# Altium integrated library Maxim Digital Potentiometers.IntLib: 1045 symbols (part 34 of 42)
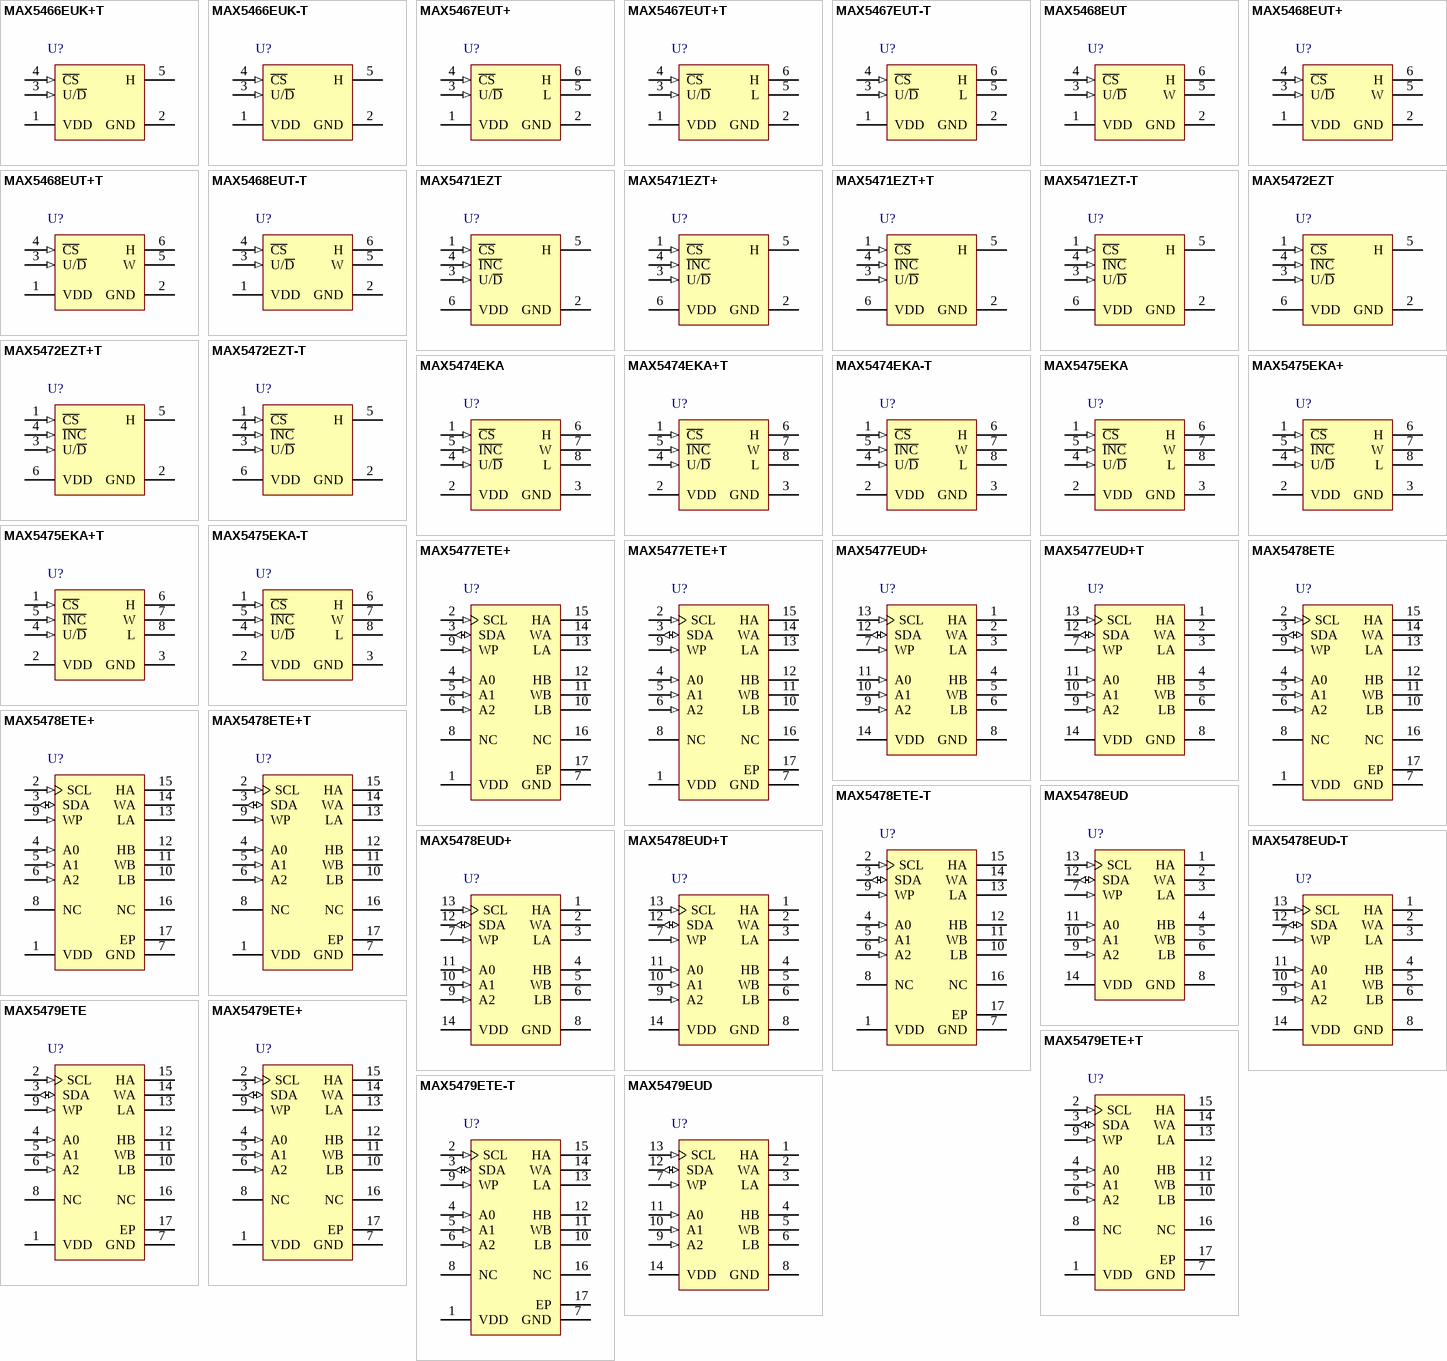
[diagram p62: symbols MAX5466EUK+T to MAX5479EUD]

## MAX5479EUD
designator U?
Dual, I2C, 100k Digital Potentiometer with 2-Wire Serial Control Interface, Non-Volatile, Linear Taper, 256 Steps, -40 to 85 degC, 14-pin TSSOP (U14-1); PartNumber: MAX5479EUD; DatasheetVersion: Rev. 5; PackageVersion: Rev. L, 07/2010; PackageReference: U14-1; PackageDescription: 14-Pin Thin Shrink Small-Outline Package (U14-1), Body 5 x 4.4 mm, Pitch 0.65 mm; Supplier 1: Mouser; Supplier Part Number 1: N/A; Control Interface: 2-Wire Serial; Features: EEPROM Wiper Memory; Mounting Technology: Surface Mount; Code_JEDEC: MO-153; ComponentLink1Description: Manufacturer URL; ComponentLink1URL: http://www.maximintegrated.com/; ComponentLink2Description: Datasheet; ComponentLink2URL: http://datasheets.maximintegrated.com/en/ds/MAX5477-MAX5479.pdf; ComponentLink3Description: Package Specification; ComponentLink3URL: http://pdfserv.maximintegrated.com/package_dwgs/21-0066.PDF
footprint MAXM-U14-1_N (SOP, 14-Leads, Body 5x4.4mm, Pitch 0.65mm, IPC Medium Density)
footprint MAXM-U14-1_L (SOP, 14-Leads, Body 5x4.4mm, Pitch 0.65mm, IPC High Density)
footprint MAXM-U14-1_M (SOP, 14-Leads, Body 5x4.4mm, Pitch 0.65mm, IPC Low Density)
pins: 1 HA "Potentiometer A High Terminal", 2 WA "Potentiometer A Wiper Terminal", 3 LA "Potentiometer A Low Terminal", 4 HB "Potentiometer B High Terminal", 5 WB "Potentiometer B Wiper Terminal", 6 LB "Potentiometer B Low Terminal", 7 WP (in) "Write-Protect Input. Connect to GND to allow changes to the wiper position and the data stored in the EEPROM. Connect to VDD or leave unconnected to enable the write protection of the EEPROM. See the Write Protect (WP) (See Datasheet)", 8 GND (power) "Ground", 9 A2 (in) "Address Input 2. Connect to VDD or GND", 10 A1 (in) "Address Input 1. Connect to VDD or GND", 11 A0 (in) "Address Input 0. Connect to VDD or GND", 12 SDA (io) "I2C Serial Data", 13 SCL (in) "I2C Clock Input", 14 VDD (power) "Power-Supply Input. Connect a +2.7V to +5.25V power supply to VDD and bypass VDD to GND with a 0.1uF capacitor installed as close to the device as possible"

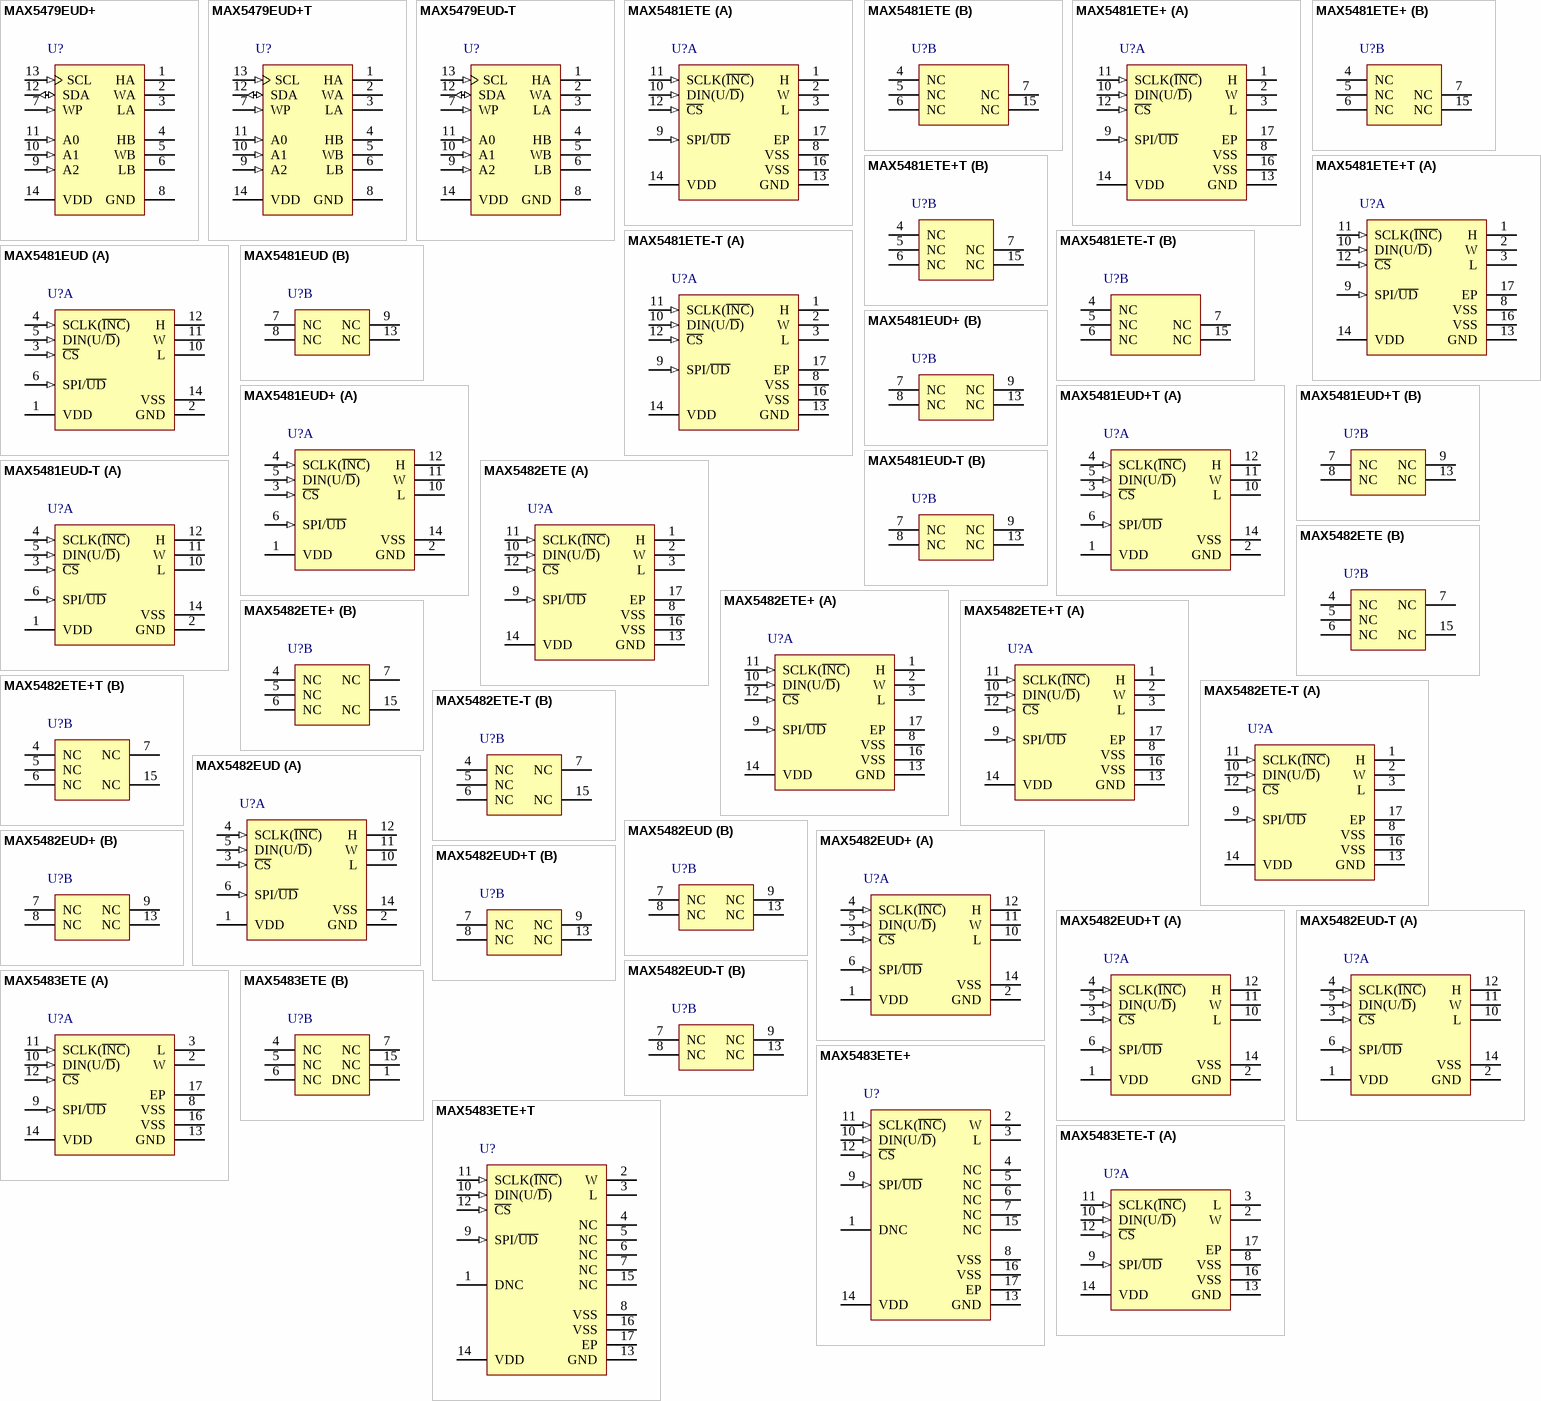
[diagram p23: symbols MAX5479EUD+ to MAX5483ETE-T]

## MAX5479EUD+
designator U?
Dual, I2C, 100k Digital Potentiometer with 2-Wire Serial Control Interface, Non-Volatile, Linear Taper, 256 Steps, -40 to 85 degC, 14-pin TSSOP (U14+1), Pb-Free,; PartNumber: MAX5479EUD+; DatasheetVersion: Rev. 5; PackageVersion: Rev. L, 07/2010; PackageReference: U14+1; PackageDescription: 14-Pin Thin Shrink Small-Outline Package (U14+1), Body 5 x 4.4 mm, Pitch 0.65 mm; Supplier 1: Digi-Key; Supplier Part Number 1: MAX5479EUD+-ND; Supplier 2: Mouser; Supplier Part Number 2: 700-MAX5479EUD; Control Interface: 2-Wire Serial; Features: EEPROM Wiper Memory; Mounting Technology: Surface Mount; Code_JEDEC: MO-153; ComponentLink1Description: Manufacturer URL; ComponentLink1URL: http://www.maximintegrated.com/; ComponentLink2Description: Datasheet; ComponentLink2URL: http://datasheets.maximintegrated.com/en/ds/MAX5477-MAX5479.pdf; ComponentLink3Description: Package Specification; ComponentLink3URL: http://pdfserv.maximintegrated.com/package_dwgs/21-0066.PDF
footprint MAXM-U14+1_N (SOP, 14-Leads, Body 5x4.4mm, Pitch 0.65mm, IPC Medium Density)
footprint MAXM-U14+1_L (SOP, 14-Leads, Body 5x4.4mm, Pitch 0.65mm, IPC High Density)
footprint MAXM-U14+1_M (SOP, 14-Leads, Body 5x4.4mm, Pitch 0.65mm, IPC Low Density)
pins: 1 HA "Potentiometer A High Terminal", 2 WA "Potentiometer A Wiper Terminal", 3 LA "Potentiometer A Low Terminal", 4 HB "Potentiometer B High Terminal", 5 WB "Potentiometer B Wiper Terminal", 6 LB "Potentiometer B Low Terminal", 7 WP (in) "Write-Protect Input. Connect to GND to allow changes to the wiper position and the data stored in the EEPROM. Connect to VDD or leave unconnected to enable the write protection of the EEPROM. See the Write Protect (WP) (See Datasheet)", 8 GND (power) "Ground", 9 A2 (in) "Address Input 2. Connect to VDD or GND", 10 A1 (in) "Address Input 1. Connect to VDD or GND", 11 A0 (in) "Address Input 0. Connect to VDD or GND", 12 SDA (io) "I2C Serial Data", 13 SCL (in) "I2C Clock Input", 14 VDD (power) "Power-Supply Input. Connect a +2.7V to +5.25V power supply to VDD and bypass VDD to GND with a 0.1uF capacitor installed as close to the device as possible"

## MAX5479EUD+T
designator U?
Dual, I2C, 100k Digital Potentiometer with 2-Wire Serial Control Interface, Non-Volatile, Linear Taper, 256 Steps, -40 to 85 degC, 14-pin TSSOP (U14+1), Pb-Free, Tape and Reel; PartNumber: MAX5479EUD+T; DatasheetVersion: Rev. 5; PackageVersion: Rev. L, 07/2010; PackageReference: U14+1; PackageDescription: 14-Pin Thin Shrink Small-Outline Package (U14+1), Body 5 x 4.4 mm, Pitch 0.65 mm; Supplier 1: Digi-Key; Supplier Part Number 1: MAX5479EUD+T-ND; Supplier 2: Mouser; Supplier Part Number 2: 700-MAX5479EUDT; Control Interface: 2-Wire Serial; Features: EEPROM Wiper Memory; Mounting Technology: Surface Mount; Code_JEDEC: MO-153; ComponentLink1Description: Manufacturer URL; ComponentLink1URL: http://www.maximintegrated.com/; ComponentLink2Description: Datasheet; ComponentLink2URL: http://datasheets.maximintegrated.com/en/ds/MAX5477-MAX5479.pdf; ComponentLink3Description: Package Specification; ComponentLink3URL: http://pdfserv.maximintegrated.com/package_dwgs/21-0066.PDF
footprint MAXM-U14+1_N (SOP, 14-Leads, Body 5x4.4mm, Pitch 0.65mm, IPC Medium Density)
footprint MAXM-U14+1_L (SOP, 14-Leads, Body 5x4.4mm, Pitch 0.65mm, IPC High Density)
footprint MAXM-U14+1_M (SOP, 14-Leads, Body 5x4.4mm, Pitch 0.65mm, IPC Low Density)
pins: 1 HA "Potentiometer A High Terminal", 2 WA "Potentiometer A Wiper Terminal", 3 LA "Potentiometer A Low Terminal", 4 HB "Potentiometer B High Terminal", 5 WB "Potentiometer B Wiper Terminal", 6 LB "Potentiometer B Low Terminal", 7 WP (in) "Write-Protect Input. Connect to GND to allow changes to the wiper position and the data stored in the EEPROM. Connect to VDD or leave unconnected to enable the write protection of the EEPROM. See the Write Protect (WP) (See Datasheet)", 8 GND (power) "Ground", 9 A2 (in) "Address Input 2. Connect to VDD or GND", 10 A1 (in) "Address Input 1. Connect to VDD or GND", 11 A0 (in) "Address Input 0. Connect to VDD or GND", 12 SDA (io) "I2C Serial Data", 13 SCL (in) "I2C Clock Input", 14 VDD (power) "Power-Supply Input. Connect a +2.7V to +5.25V power supply to VDD and bypass VDD to GND with a 0.1uF capacitor installed as close to the device as possible"

## MAX5479EUD-T
designator U?
Dual, I2C, 100k Digital Potentiometer with 2-Wire Serial Control Interface, Non-Volatile, Linear Taper, 256 Steps, -40 to 85 degC, 14-pin TSSOP (U14-1), Tape and Reel; PartNumber: MAX5479EUD-T; DatasheetVersion: Rev. 5; PackageVersion: Rev. L, 07/2010; PackageReference: U14-1; PackageDescription: 14-Pin Thin Shrink Small-Outline Package (U14-1), Body 5 x 4.4 mm, Pitch 0.65 mm; Supplier 1: Mouser; Supplier Part Number 1: N/A; Control Interface: 2-Wire Serial; Features: EEPROM Wiper Memory; Mounting Technology: Surface Mount; Code_JEDEC: MO-153; ComponentLink1Description: Manufacturer URL; ComponentLink1URL: http://www.maximintegrated.com/; ComponentLink2Description: Datasheet; ComponentLink2URL: http://datasheets.maximintegrated.com/en/ds/MAX5477-MAX5479.pdf; ComponentLink3Description: Package Specification; ComponentLink3URL: http://pdfserv.maximintegrated.com/package_dwgs/21-0066.PDF
footprint MAXM-U14-1_N (SOP, 14-Leads, Body 5x4.4mm, Pitch 0.65mm, IPC Medium Density)
footprint MAXM-U14-1_L (SOP, 14-Leads, Body 5x4.4mm, Pitch 0.65mm, IPC High Density)
footprint MAXM-U14-1_M (SOP, 14-Leads, Body 5x4.4mm, Pitch 0.65mm, IPC Low Density)
pins: 1 HA "Potentiometer A High Terminal", 2 WA "Potentiometer A Wiper Terminal", 3 LA "Potentiometer A Low Terminal", 4 HB "Potentiometer B High Terminal", 5 WB "Potentiometer B Wiper Terminal", 6 LB "Potentiometer B Low Terminal", 7 WP (in) "Write-Protect Input. Connect to GND to allow changes to the wiper position and the data stored in the EEPROM. Connect to VDD or leave unconnected to enable the write protection of the EEPROM. See the Write Protect (WP) (See Datasheet)", 8 GND (power) "Ground", 9 A2 (in) "Address Input 2. Connect to VDD or GND", 10 A1 (in) "Address Input 1. Connect to VDD or GND", 11 A0 (in) "Address Input 0. Connect to VDD or GND", 12 SDA (io) "I2C Serial Data", 13 SCL (in) "I2C Clock Input", 14 VDD (power) "Power-Supply Input. Connect a +2.7V to +5.25V power supply to VDD and bypass VDD to GND with a 0.1uF capacitor installed as close to the device as possible"

## MAX5481ETE
designator U?
10k Digital Potentiometer (Voltage Divider) with 3-Wire Serial SPI Control Interface, Non-Volatile, Linear Taper, 1024 Steps, -40 to 85 degC, 16-pin TQFN (T1633F-3); PartNumber: MAX5481ETE; DatasheetVersion: Rev. 5; PackageVersion: Rev. L, 04/2012; PackageReference: T1633F-3; PackageDescription: 16-Pin Thin Quad Flatpack, No Leads, Body 3 x 3 mm, Pitch 0.5 mm; Supplier 1: Mouser; Supplier Part Number 1: N/A; Applications: Fiber Communications, Power Supply Cal.; Control Interface: 3-Wire Serial SPI; Features: EEPROM Wiper Memory; Mounting Technology: Surface Mount; Code_JEDEC: MO220; ComponentLink1Description: Manufacturer URL; ComponentLink1URL: http://www.maximintegrated.com/; ComponentLink2Description: Datasheet; ComponentLink2URL: http://datasheets.maximintegrated.com/en/ds/MAX5481-MAX5484.pdf; ComponentLink3Description: Package Specification; ComponentLink3URL: http://pdfserv.maximintegrated.com/package_dwgs/21-0136.PDF
footprint MAXM-T1633F-3_N (QFN, 16-Leads, Body 3x3mm, Pitch 0.5mm, Thermal Pad 0.8x0.8mm, IPC Medium Density)
footprint MAXM-T1633F-3_L (QFN, 16-Leads, Body 3x3mm, Pitch 0.5mm, Thermal Pad 0.8x0.8mm, IPC High Density)
footprint MAXM-T1633F-3_M (QFN, 16-Leads, Body 3x3mm, Pitch 0.5mm, Thermal Pad 0.8x0.8mm, IPC Low Density)
part A pins: 1 H "High Terminal", 2 W "Wiper Terminal", 3 L "Low Terminal", 8 VSS (power) "Negative Power-Supply Input. For single-supply operation, connect VSS to GND. For dualsupply operation, -2.5V<=VSS<=-0.2V as long as (VDD - VSS)<=+5.25V.Bypass VSS to GND with a 0.1µF ceramic capacitor as close to the device (See Datasheet)", 9 SPI/~{UD} (in) "Interface-Mode Select. Select serial SPI interface when SPI/U\D\ = 1. Select serial up/down interface when SPI/U\D\ = 0.", 10 DIN(U/~{D}) (in), 11 SCLK(~{INC}) (in), 12 ~{CS} (in) "Active-Low Digital Input Chip Select", 13 GND (power) "Ground", 14 VDD (power) "Positive Power-Supply Input (+2.7V<=VDD<=+5.25V). Bypass VDD to GND with a 0.1uF ceramic capacitor as close to the device as possible.", 16 VSS (power) "Negative Power-Supply Input. For single-supply operation, connect VSS to GND. For dualsupply operation, -2.5V<=VSS<=-0.2V as long as (VDD - VSS)<=+5.25V.Bypass VSS to GND with a 0.1µF ceramic capacitor as close to the device (See Datasheet)", 17 EP "Exposed Pad (TQFN Only). Externally connect EP to VSS or leave unconnected."
part B pins: 4 NC "No Connection. Not internally connected.", 5 NC "No Connection. Not internally connected.", 6 NC "No Connection. Not internally connected.", 7 NC "No Connection. Not internally connected.", 15 NC "No Connection. Not internally connected."

## MAX5481ETE+
designator U?
10k Digital Potentiometer (Voltage Divider) with 3-Wire Serial SPI Control Interface, Non-Volatile, Linear Taper, 1024 Steps, -40 to 85 degC, 16-pin TQFN (T1633F+3), Pb-Free; PartNumber: MAX5481ETE+; DatasheetVersion: Rev. 5; PackageVersion: Rev. L, 04/2012; PackageReference: T1633F+3; PackageDescription: 16-Pin Thin Quad Flatpack, No Leads, Body 3 x 3 mm, Pitch 0.5 mm; Supplier 1: Digi-Key; Supplier Part Number 1: MAX5481ETE+-ND; Supplier 2: Mouser; Supplier Part Number 2: 700-MAX5481ETE; Applications: Fiber Communications, Power Supply Cal.; Control Interface: 3-Wire Serial SPI; Features: EEPROM Wiper Memory; Mounting Technology: Surface Mount; Code_JEDEC: MO220; ComponentLink1Description: Manufacturer URL; ComponentLink1URL: http://www.maximintegrated.com/; ComponentLink2Description: Datasheet; ComponentLink2URL: http://datasheets.maximintegrated.com/en/ds/MAX5481-MAX5484.pdf; ComponentLink3Description: Package Specification; ComponentLink3URL: http://pdfserv.maximintegrated.com/package_dwgs/21-0136.PDF
footprint MAXM-T1633F+3_N (QFN, 16-Leads, Body 3x3mm, Pitch 0.5mm, Thermal Pad 0.8x0.8mm, IPC Medium Density)
footprint MAXM-T1633F+3_L (QFN, 16-Leads, Body 3x3mm, Pitch 0.5mm, Thermal Pad 0.8x0.8mm, IPC High Density)
footprint MAXM-T1633F+3_M (QFN, 16-Leads, Body 3x3mm, Pitch 0.5mm, Thermal Pad 0.8x0.8mm, IPC Low Density)
part A pins: 1 H "High Terminal", 2 W "Wiper Terminal", 3 L "Low Terminal", 8 VSS (power) "Negative Power-Supply Input. For single-supply operation, connect VSS to GND. For dualsupply operation, -2.5V<=VSS<=-0.2V as long as (VDD - VSS)<=+5.25V.Bypass VSS to GND with a 0.1µF ceramic capacitor as close to the device (See Datasheet)", 9 SPI/~{UD} (in) "Interface-Mode Select. Select serial SPI interface when SPI/U\D\ = 1. Select serial up/down interface when SPI/U\D\ = 0.", 10 DIN(U/~{D}) (in), 11 SCLK(~{INC}) (in), 12 ~{CS} (in) "Active-Low Digital Input Chip Select", 13 GND (power) "Ground", 14 VDD (power) "Positive Power-Supply Input (+2.7V<=VDD<=+5.25V). Bypass VDD to GND with a 0.1uF ceramic capacitor as close to the device as possible.", 16 VSS (power) "Negative Power-Supply Input. For single-supply operation, connect VSS to GND. For dualsupply operation, -2.5V<=VSS<=-0.2V as long as (VDD - VSS)<=+5.25V.Bypass VSS to GND with a 0.1µF ceramic capacitor as close to the device (See Datasheet)", 17 EP "Exposed Pad (TQFN Only). Externally connect EP to VSS or leave unconnected."
part B pins: 4 NC "No Connection. Not internally connected.", 5 NC "No Connection. Not internally connected.", 6 NC "No Connection. Not internally connected.", 7 NC "No Connection. Not internally connected.", 15 NC "No Connection. Not internally connected."

## MAX5481ETE+T
designator U?
10k Digital Potentiometer (Voltage Divider) with 3-Wire Serial SPI Control Interface, Non-Volatile, Linear Taper, 1024 Steps, -40 to 85 degC, 16-pin TQFN (T1633F+3), Pb-Free, Tape and Reel; PartNumber: MAX5481ETE+T; DatasheetVersion: Rev. 5; PackageVersion: Rev. L, 04/2012; PackageReference: T1633F+3; PackageDescription: 16-Pin Thin Quad Flatpack, No Leads, Body 3 x 3 mm, Pitch 0.5 mm; Supplier 1: Digi-Key; Supplier Part Number 1: MAX5481ETE+T-ND; Supplier 2: Mouser; Supplier Part Number 2: 700-MAX5481ETE+T; Applications: Fiber Communications, Power Supply Cal.; Control Interface: 3-Wire Serial SPI; Features: EEPROM Wiper Memory; Mounting Technology: Surface Mount; Code_JEDEC: MO220; ComponentLink1Description: Manufacturer URL; ComponentLink1URL: http://www.maximintegrated.com/; ComponentLink2Description: Datasheet; ComponentLink2URL: http://datasheets.maximintegrated.com/en/ds/MAX5481-MAX5484.pdf; ComponentLink3Description: Package Specification; ComponentLink3URL: http://pdfserv.maximintegrated.com/package_dwgs/21-0136.PDF
footprint MAXM-T1633F+3_N (QFN, 16-Leads, Body 3x3mm, Pitch 0.5mm, Thermal Pad 0.8x0.8mm, IPC Medium Density)
footprint MAXM-T1633F+3_L (QFN, 16-Leads, Body 3x3mm, Pitch 0.5mm, Thermal Pad 0.8x0.8mm, IPC High Density)
footprint MAXM-T1633F+3_M (QFN, 16-Leads, Body 3x3mm, Pitch 0.5mm, Thermal Pad 0.8x0.8mm, IPC Low Density)
part A pins: 1 H "High Terminal", 2 W "Wiper Terminal", 3 L "Low Terminal", 8 VSS (power) "Negative Power-Supply Input. For single-supply operation, connect VSS to GND. For dualsupply operation, -2.5V<=VSS<=-0.2V as long as (VDD - VSS)<=+5.25V.Bypass VSS to GND with a 0.1µF ceramic capacitor as close to the device (See Datasheet)", 9 SPI/~{UD} (in) "Interface-Mode Select. Select serial SPI interface when SPI/U\D\ = 1. Select serial up/down interface when SPI/U\D\ = 0.", 10 DIN(U/~{D}) (in), 11 SCLK(~{INC}) (in), 12 ~{CS} (in) "Active-Low Digital Input Chip Select", 13 GND (power) "Ground", 14 VDD (power) "Positive Power-Supply Input (+2.7V<=VDD<=+5.25V). Bypass VDD to GND with a 0.1uF ceramic capacitor as close to the device as possible.", 16 VSS (power) "Negative Power-Supply Input. For single-supply operation, connect VSS to GND. For dualsupply operation, -2.5V<=VSS<=-0.2V as long as (VDD - VSS)<=+5.25V.Bypass VSS to GND with a 0.1µF ceramic capacitor as close to the device (See Datasheet)", 17 EP "Exposed Pad (TQFN Only). Externally connect EP to VSS or leave unconnected."
part B pins: 4 NC "No Connection. Not internally connected.", 5 NC "No Connection. Not internally connected.", 6 NC "No Connection. Not internally connected.", 7 NC "No Connection. Not internally connected.", 15 NC "No Connection. Not internally connected."

## MAX5481ETE-T
designator U?
10k Digital Potentiometer (Voltage Divider) with 3-Wire Serial SPI Control Interface, Non-Volatile, Linear Taper, 1024 Steps, -40 to 85 degC, 16-pin TQFN (T1633F-3), Tape and Reel; PartNumber: MAX5481ETE-T; DatasheetVersion: Rev. 5; PackageVersion: Rev. L, 04/2012; PackageReference: T1633F-3; PackageDescription: 16-Pin Thin Quad Flatpack, No Leads, Body 3 x 3 mm, Pitch 0.5 mm; Supplier 1: Mouser; Supplier Part Number 1: N/A; Applications: Fiber Communications, Power Supply Cal.; Control Interface: 3-Wire Serial SPI; Features: EEPROM Wiper Memory; Mounting Technology: Surface Mount; Code_JEDEC: MO220; ComponentLink1Description: Manufacturer URL; ComponentLink1URL: http://www.maximintegrated.com/; ComponentLink2Description: Datasheet; ComponentLink2URL: http://datasheets.maximintegrated.com/en/ds/MAX5481-MAX5484.pdf; ComponentLink3Description: Package Specification; ComponentLink3URL: http://pdfserv.maximintegrated.com/package_dwgs/21-0136.PDF
footprint MAXM-T1633F-3_N (QFN, 16-Leads, Body 3x3mm, Pitch 0.5mm, Thermal Pad 0.8x0.8mm, IPC Medium Density)
footprint MAXM-T1633F-3_L (QFN, 16-Leads, Body 3x3mm, Pitch 0.5mm, Thermal Pad 0.8x0.8mm, IPC High Density)
footprint MAXM-T1633F-3_M (QFN, 16-Leads, Body 3x3mm, Pitch 0.5mm, Thermal Pad 0.8x0.8mm, IPC Low Density)
part A pins: 1 H "High Terminal", 2 W "Wiper Terminal", 3 L "Low Terminal", 8 VSS (power) "Negative Power-Supply Input. For single-supply operation, connect VSS to GND. For dualsupply operation, -2.5V<=VSS<=-0.2V as long as (VDD - VSS)<=+5.25V.Bypass VSS to GND with a 0.1µF ceramic capacitor as close to the device (See Datasheet)", 9 SPI/~{UD} (in) "Interface-Mode Select. Select serial SPI interface when SPI/U\D\ = 1. Select serial up/down interface when SPI/U\D\ = 0.", 10 DIN(U/~{D}) (in), 11 SCLK(~{INC}) (in), 12 ~{CS} (in) "Active-Low Digital Input Chip Select", 13 GND (power) "Ground", 14 VDD (power) "Positive Power-Supply Input (+2.7V<=VDD<=+5.25V). Bypass VDD to GND with a 0.1uF ceramic capacitor as close to the device as possible.", 16 VSS (power) "Negative Power-Supply Input. For single-supply operation, connect VSS to GND. For dualsupply operation, -2.5V<=VSS<=-0.2V as long as (VDD - VSS)<=+5.25V.Bypass VSS to GND with a 0.1µF ceramic capacitor as close to the device (See Datasheet)", 17 EP "Exposed Pad (TQFN Only). Externally connect EP to VSS or leave unconnected."
part B pins: 4 NC "No Connection. Not internally connected.", 5 NC "No Connection. Not internally connected.", 6 NC "No Connection. Not internally connected.", 7 NC "No Connection. Not internally connected.", 15 NC "No Connection. Not internally connected."

## MAX5481EUD
designator U?
10k Digital Potentiometer (Voltage Divider) with 3-Wire Serial SPI Control Interface, Non-Volatile, Linear Taper, 1024 Steps, -40 to 85 degC, 14-pin TSSOP (U14-1); PartNumber: MAX5481EUD; DatasheetVersion: Rev. 5; PackageVersion: Rev. L, 07/2010; PackageReference: U14-1; PackageDescription: 14-Pin Thin Shrink Small-Outline Package (U14-1), Body 5 x 4.4 mm, Pitch 0.65 mm; Supplier 1: Mouser; Supplier Part Number 1: N/A; Applications: Fiber Communications, Power Supply Cal.; Control Interface: 3-Wire Serial SPI; Features: EEPROM Wiper Memory; Mounting Technology: Surface Mount; Code_JEDEC: MO-153; ComponentLink1Description: Manufacturer URL; ComponentLink1URL: http://www.maximintegrated.com/; ComponentLink2Description: Datasheet; ComponentLink2URL: http://datasheets.maximintegrated.com/en/ds/MAX5481-MAX5484.pdf; ComponentLink3Description: Package Specification; ComponentLink3URL: http://pdfserv.maximintegrated.com/package_dwgs/21-0066.PDF
footprint MAXM-U14-1_N (SOP, 14-Leads, Body 5x4.4mm, Pitch 0.65mm, IPC Medium Density)
footprint MAXM-U14-1_L (SOP, 14-Leads, Body 5x4.4mm, Pitch 0.65mm, IPC High Density)
footprint MAXM-U14-1_M (SOP, 14-Leads, Body 5x4.4mm, Pitch 0.65mm, IPC Low Density)
part A pins: 1 VDD (power) "Positive Power-Supply Input (+2.7V =< VDD =< +5.25V). Bypass VDD to GND with a 0.1uF ceramic capacitor as close to the device as possible.", 2 GND (power) "Ground", 3 ~{CS} (in) "Active-Low Digital Input Chip Select", 4 SCLK(~{INC}) (in), 5 DIN(U/~{D}) (in), 6 SPI/~{UD} (in) "Interface-Mode Select. Select serial SPI interface when SPI/U\D\ = 1. Select serial up/down interface when SPI/U\D\ = 0.", 10 L "Low Terminal", 11 W "Wiper Terminal", 12 H "High Terminal", 14 VSS (power) "Negative Power-Supply Input. For single-supply operation, connect VSS to GND. For dualsupply operation, -2.5V =< VSS =< -0.2V as long as (VDD - VSS) =< 5.25V. Bypass VSS to GND with a 0.1uF ceramic capacitor as close to the (See Datasheet)"
part B pins: 7 NC "No Connection. Not internally connected", 8 NC "No Connection. Not internally connected", 9 NC "No Connection. Not internally connected", 13 NC "No Connection. Not internally connected"

## MAX5481EUD+
designator U?
10k Digital Potentiometer (Voltage Divider) with 3-Wire Serial SPI Control Interface, Non-Volatile, Linear Taper, 1024 Steps, -40 to 85 degC, 14-pin TSSOP (U14+1), Pb-Free; PartNumber: MAX5481EUD+; DatasheetVersion: Rev. 5; PackageVersion: Rev. L, 07/2010; PackageReference: U14+1; PackageDescription: 14-Pin Thin Shrink Small-Outline Package (U14+1), Body 5 x 4.4 mm, Pitch 0.65 mm; Supplier 1: Digi-Key; Supplier Part Number 1: MAX5481EUD+-ND; Supplier 2: Farnell; Supplier Part Number 2: 1433214; Supplier 3: Newark; Supplier Part Number 3: 26R6494; Supplier 4: Mouser; Supplier Part Number 4: 700-MAX5481EUD; Applications: Fiber Communications, Power Supply Cal.; Control Interface: 3-Wire Serial SPI; Features: EEPROM Wiper Memory; Mounting Technology: Surface Mount; Code_JEDEC: MO-153; ComponentLink1Description: Manufacturer URL; ComponentLink1URL: http://www.maximintegrated.com/; ComponentLink2Description: Datasheet; ComponentLink2URL: http://datasheets.maximintegrated.com/en/ds/MAX5481-MAX5484.pdf; ComponentLink3Description: Package Specification; ComponentLink3URL: http://pdfserv.maximintegrated.com/package_dwgs/21-0066.PDF
footprint MAXM-U14+1_N (SOP, 14-Leads, Body 5x4.4mm, Pitch 0.65mm, IPC Medium Density)
footprint MAXM-U14+1_L (SOP, 14-Leads, Body 5x4.4mm, Pitch 0.65mm, IPC High Density)
footprint MAXM-U14+1_M (SOP, 14-Leads, Body 5x4.4mm, Pitch 0.65mm, IPC Low Density)
part A pins: 1 VDD (power) "Positive Power-Supply Input (+2.7V =< VDD =< +5.25V). Bypass VDD to GND with a 0.1uF ceramic capacitor as close to the device as possible.", 2 GND (power) "Ground", 3 ~{CS} (in) "Active-Low Digital Input Chip Select", 4 SCLK(~{INC}) (in), 5 DIN(U/~{D}) (in), 6 SPI/~{UD} (in) "Interface-Mode Select. Select serial SPI interface when SPI/U\D\ = 1. Select serial up/down interface when SPI/U\D\ = 0.", 10 L "Low Terminal", 11 W "Wiper Terminal", 12 H "High Terminal", 14 VSS (power) "Negative Power-Supply Input. For single-supply operation, connect VSS to GND. For dualsupply operation, -2.5V =< VSS =< -0.2V as long as (VDD - VSS) =< 5.25V. Bypass VSS to GND with a 0.1uF ceramic capacitor as close to the (See Datasheet)"
part B pins: 7 NC "No Connection. Not internally connected", 8 NC "No Connection. Not internally connected", 9 NC "No Connection. Not internally connected", 13 NC "No Connection. Not internally connected"

## MAX5481EUD+T
designator U?
10k Digital Potentiometer (Voltage Divider) with 3-Wire Serial SPI Control Interface, Non-Volatile, Linear Taper, 1024 Steps, -40 to 85 degC, 14-pin TSSOP (U14+1), Pb-Free, Tape and Reel; PartNumber: MAX5481EUD+T; DatasheetVersion: Rev. 5; PackageVersion: Rev. L, 07/2010; PackageReference: U14+1; PackageDescription: 14-Pin Thin Shrink Small-Outline Package (U14+1), Body 5 x 4.4 mm, Pitch 0.65 mm; Supplier 1: Digi-Key; Supplier Part Number 1: MAX5481EUD+T-ND; Supplier 2: Mouser; Supplier Part Number 2: 700-MAX5481EUDT; Applications: Fiber Communications, Power Supply Cal.; Control Interface: 3-Wire Serial SPI; Features: EEPROM Wiper Memory; Mounting Technology: Surface Mount; Code_JEDEC: MO-153; ComponentLink1Description: Manufacturer URL; ComponentLink1URL: http://www.maximintegrated.com/; ComponentLink2Description: Datasheet; ComponentLink2URL: http://datasheets.maximintegrated.com/en/ds/MAX5481-MAX5484.pdf; ComponentLink3Description: Package Specification; ComponentLink3URL: http://pdfserv.maximintegrated.com/package_dwgs/21-0066.PDF
footprint MAXM-U14+1_N (SOP, 14-Leads, Body 5x4.4mm, Pitch 0.65mm, IPC Medium Density)
footprint MAXM-U14+1_L (SOP, 14-Leads, Body 5x4.4mm, Pitch 0.65mm, IPC High Density)
footprint MAXM-U14+1_M (SOP, 14-Leads, Body 5x4.4mm, Pitch 0.65mm, IPC Low Density)
part A pins: 1 VDD (power) "Positive Power-Supply Input (+2.7V =< VDD =< +5.25V). Bypass VDD to GND with a 0.1uF ceramic capacitor as close to the device as possible.", 2 GND (power) "Ground", 3 ~{CS} (in) "Active-Low Digital Input Chip Select", 4 SCLK(~{INC}) (in), 5 DIN(U/~{D}) (in), 6 SPI/~{UD} (in) "Interface-Mode Select. Select serial SPI interface when SPI/U\D\ = 1. Select serial up/down interface when SPI/U\D\ = 0.", 10 L "Low Terminal", 11 W "Wiper Terminal", 12 H "High Terminal", 14 VSS (power) "Negative Power-Supply Input. For single-supply operation, connect VSS to GND. For dualsupply operation, -2.5V =< VSS =< -0.2V as long as (VDD - VSS) =< 5.25V. Bypass VSS to GND with a 0.1uF ceramic capacitor as close to the (See Datasheet)"
part B pins: 7 NC "No Connection. Not internally connected", 8 NC "No Connection. Not internally connected", 9 NC "No Connection. Not internally connected", 13 NC "No Connection. Not internally connected"

## MAX5481EUD-T
designator U?
10k Digital Potentiometer (Voltage Divider) with 3-Wire Serial SPI Control Interface, Non-Volatile, Linear Taper, 1024 Steps, -40 to 85 degC, 14-pin TSSOP (U14-1), Tape and Reel; PartNumber: MAX5481EUD-T; DatasheetVersion: Rev. 5; PackageVersion: Rev. L, 07/2010; PackageReference: U14-1; PackageDescription: 14-Pin Thin Shrink Small-Outline Package (U14-1), Body 5 x 4.4 mm, Pitch 0.65 mm; Supplier 1: Mouser; Supplier Part Number 1: N/A; Applications: Fiber Communications, Power Supply Cal.; Control Interface: 3-Wire Serial SPI; Features: EEPROM Wiper Memory; Mounting Technology: Surface Mount; Code_JEDEC: MO-153; ComponentLink1Description: Manufacturer URL; ComponentLink1URL: http://www.maximintegrated.com/; ComponentLink2Description: Datasheet; ComponentLink2URL: http://datasheets.maximintegrated.com/en/ds/MAX5481-MAX5484.pdf; ComponentLink3Description: Package Specification; ComponentLink3URL: http://pdfserv.maximintegrated.com/package_dwgs/21-0066.PDF
footprint MAXM-U14-1_N (SOP, 14-Leads, Body 5x4.4mm, Pitch 0.65mm, IPC Medium Density)
footprint MAXM-U14-1_L (SOP, 14-Leads, Body 5x4.4mm, Pitch 0.65mm, IPC High Density)
footprint MAXM-U14-1_M (SOP, 14-Leads, Body 5x4.4mm, Pitch 0.65mm, IPC Low Density)
part A pins: 1 VDD (power) "Positive Power-Supply Input (+2.7V =< VDD =< +5.25V). Bypass VDD to GND with a 0.1uF ceramic capacitor as close to the device as possible.", 2 GND (power) "Ground", 3 ~{CS} (in) "Active-Low Digital Input Chip Select", 4 SCLK(~{INC}) (in), 5 DIN(U/~{D}) (in), 6 SPI/~{UD} (in) "Interface-Mode Select. Select serial SPI interface when SPI/U\D\ = 1. Select serial up/down interface when SPI/U\D\ = 0.", 10 L "Low Terminal", 11 W "Wiper Terminal", 12 H "High Terminal", 14 VSS (power) "Negative Power-Supply Input. For single-supply operation, connect VSS to GND. For dualsupply operation, -2.5V =< VSS =< -0.2V as long as (VDD - VSS) =< 5.25V. Bypass VSS to GND with a 0.1uF ceramic capacitor as close to the (See Datasheet)"
part B pins: 7 NC "No Connection. Not internally connected", 8 NC "No Connection. Not internally connected", 9 NC "No Connection. Not internally connected", 13 NC "No Connection. Not internally connected"

## MAX5482ETE
designator U?
50k Digital Potentiometer (Voltage Divider) with 3-Wire Serial SPI Control Interface, Non-Volatile, Linear Taper, 1024 Steps, -40 to 85 degC, 16-pin TQFN (T1633F-3); PartNumber: MAX5482ETE; DatasheetVersion: Rev. 5; PackageVersion: Rev. L, 04/2012; PackageReference: T1633F-3; PackageDescription: 16-Pin Thin Quad Flatpack, No Leads, Body 3 x 3 mm, Pitch 0.5 mm; Supplier 1: Mouser; Supplier Part Number 1: N/A; Applications: Fiber Communications, Power Supply Cal.; Control Interface: 3-Wire Serial SPI; Features: EEPROM Wiper Memory; Mounting Technology: Surface Mount; Code_JEDEC: MO220; ComponentLink1Description: Manufacturer URL; ComponentLink1URL: http://www.maximintegrated.com/; ComponentLink2Description: Datasheet; ComponentLink2URL: http://datasheets.maximintegrated.com/en/ds/MAX5481-MAX5484.pdf; ComponentLink3Description: Package Specification; ComponentLink3URL: http://pdfserv.maximintegrated.com/package_dwgs/21-0136.PDF
footprint MAXM-T1633F-3_N (QFN, 16-Leads, Body 3x3mm, Pitch 0.5mm, Thermal Pad 0.8x0.8mm, IPC Medium Density)
footprint MAXM-T1633F-3_L (QFN, 16-Leads, Body 3x3mm, Pitch 0.5mm, Thermal Pad 0.8x0.8mm, IPC High Density)
footprint MAXM-T1633F-3_M (QFN, 16-Leads, Body 3x3mm, Pitch 0.5mm, Thermal Pad 0.8x0.8mm, IPC Low Density)
part A pins: 1 H "High Terminal", 2 W "Wiper Terminal", 3 L "Low Terminal", 8 VSS (power) "Negative Power-Supply Input. For single-supply operation, connect VSS to GND. For dualsupply operation, -2.5V =< VSS =< -0.2V as long as (VDD - VSS) =< +5.25V. Bypass VSS to GND with a 0.1uF ceramic capacitor as close to the (See Datasheet)", 9 SPI/~{UD} (in) "Interface-Mode Select. Select serial SPI interface when SPI/U\D\ = 1. Select serial up/down interface when SPI/U\D\ = 0.", 10 DIN(U/~{D}) (in), 11 SCLK(~{INC}) (in), 12 ~{CS} (in) "Active-Low Digital Input Chip Select", 13 GND (power) "Ground", 14 VDD (power) "Positive Power-Supply Input (+2.7V =< VDD =< +5.25V). Bypass VDD to GND with a 0.1uF ceramic capacitor as close to the device as possible.", 16 VSS (power) "Negative Power-Supply Input. For single-supply operation, connect VSS to GND. For dualsupply operation, -2.5V =< VSS =< -0.2V as long as (VDD - VSS) =< +5.25V. Bypass VSS to GND with a 0.1uF ceramic capacitor as close to the (See Datasheet)", 17 EP (power) "Exposed Pad (TQFN Only). Externally connect EP to VSS or leave unconnected."
part B pins: 4 NC "No Connection. Not internally connected.", 5 NC "No Connection. Not internally connected.", 6 NC "No Connection. Not internally connected.", 7 NC "No Connection. Not internally connected.", 15 NC "No Connection. Not internally connected."

## MAX5482ETE+
designator U?
50k Digital Potentiometer (Voltage Divider) with 3-Wire Serial SPI Control Interface, Non-Volatile, Linear Taper, 1024 Steps, -40 to 85 degC, 16-pin TQFN (T1633F+3), Pb-Free; PartNumber: MAX5482ETE+; DatasheetVersion: Rev. 5; PackageVersion: Rev. L, 04/2012; PackageReference: T1633F+3; PackageDescription: 16-Pin Thin Quad Flatpack, No Leads, Body 3 x 3 mm, Pitch 0.5 mm; Supplier 1: Digi-Key; Supplier Part Number 1: MAX5482ETE+-ND; Supplier 2: Mouser; Supplier Part Number 2: 700-MAX5482ETE; Applications: Fiber Communications, Power Supply Cal.; Control Interface: 3-Wire Serial SPI; Features: EEPROM Wiper Memory; Mounting Technology: Surface Mount; Code_JEDEC: MO220; ComponentLink1Description: Manufacturer URL; ComponentLink1URL: http://www.maximintegrated.com/; ComponentLink2Description: Datasheet; ComponentLink2URL: http://datasheets.maximintegrated.com/en/ds/MAX5481-MAX5484.pdf; ComponentLink3Description: Package Specification; ComponentLink3URL: http://pdfserv.maximintegrated.com/package_dwgs/21-0136.PDF
footprint MAXM-T1633F+3_N (QFN, 16-Leads, Body 3x3mm, Pitch 0.5mm, Thermal Pad 0.8x0.8mm, IPC Medium Density)
footprint MAXM-T1633F+3_L (QFN, 16-Leads, Body 3x3mm, Pitch 0.5mm, Thermal Pad 0.8x0.8mm, IPC High Density)
footprint MAXM-T1633F+3_M (QFN, 16-Leads, Body 3x3mm, Pitch 0.5mm, Thermal Pad 0.8x0.8mm, IPC Low Density)
part A pins: 1 H "High Terminal", 2 W "Wiper Terminal", 3 L "Low Terminal", 8 VSS (power) "Negative Power-Supply Input. For single-supply operation, connect VSS to GND. For dualsupply operation, -2.5V =< VSS =< -0.2V as long as (VDD - VSS) =< +5.25V. Bypass VSS to GND with a 0.1uF ceramic capacitor as close to the (See Datasheet)", 9 SPI/~{UD} (in) "Interface-Mode Select. Select serial SPI interface when SPI/U\D\ = 1. Select serial up/down interface when SPI/U\D\ = 0.", 10 DIN(U/~{D}) (in), 11 SCLK(~{INC}) (in), 12 ~{CS} (in) "Active-Low Digital Input Chip Select", 13 GND (power) "Ground", 14 VDD (power) "Positive Power-Supply Input (+2.7V =< VDD =< +5.25V). Bypass VDD to GND with a 0.1uF ceramic capacitor as close to the device as possible.", 16 VSS (power) "Negative Power-Supply Input. For single-supply operation, connect VSS to GND. For dualsupply operation, -2.5V =< VSS =< -0.2V as long as (VDD - VSS) =< +5.25V. Bypass VSS to GND with a 0.1uF ceramic capacitor as close to the (See Datasheet)", 17 EP "Exposed Pad (TQFN Only). Externally connect EP to VSS or leave unconnected."
part B pins: 4 NC "No Connection. Not internally connected.", 5 NC "No Connection. Not internally connected.", 6 NC "No Connection. Not internally connected.", 7 NC "No Connection. Not internally connected.", 15 NC "No Connection. Not internally connected."

## MAX5482ETE+T
designator U?
50k Digital Potentiometer (Voltage Divider) with 3-Wire Serial SPI Control Interface, Non-Volatile, Linear Taper, 1024 Steps, -40 to 85 degC, 16-pin TQFN (T1633F+3), Pb-Free, Tape and Reel; PartNumber: MAX5482ETE+T; DatasheetVersion: Rev. 5; PackageVersion: Rev. L, 04/2012; PackageReference: T1633F+3; PackageDescription: 16-Pin Thin Quad Flatpack, No Leads, Body 3 x 3 mm, Pitch 0.5 mm; Supplier 1: Digi-Key; Supplier Part Number 1: MAX5482ETE+T-ND; Supplier 2: Mouser; Supplier Part Number 2: 700-MAX5482ETET; Applications: Fiber Communications, Power Supply Cal.; Control Interface: 3-Wire Serial SPI; Features: EEPROM Wiper Memory; Mounting Technology: Surface Mount; Code_JEDEC: MO220; ComponentLink1Description: Manufacturer URL; ComponentLink1URL: http://www.maximintegrated.com/; ComponentLink2Description: Datasheet; ComponentLink2URL: http://datasheets.maximintegrated.com/en/ds/MAX5481-MAX5484.pdf; ComponentLink3Description: Package Specification; ComponentLink3URL: http://pdfserv.maximintegrated.com/package_dwgs/21-0136.PDF
footprint MAXM-T1633F+3_N (QFN, 16-Leads, Body 3x3mm, Pitch 0.5mm, Thermal Pad 0.8x0.8mm, IPC Medium Density)
footprint MAXM-T1633F+3_L (QFN, 16-Leads, Body 3x3mm, Pitch 0.5mm, Thermal Pad 0.8x0.8mm, IPC High Density)
footprint MAXM-T1633F+3_M (QFN, 16-Leads, Body 3x3mm, Pitch 0.5mm, Thermal Pad 0.8x0.8mm, IPC Low Density)
part A pins: 1 H "High Terminal", 2 W "Wiper Terminal", 3 L "Low Terminal", 8 VSS (power) "Negative Power-Supply Input. For single-supply operation, connect VSS to GND. For dualsupply operation, -2.5V =< VSS =< -0.2V as long as (VDD - VSS) =< +5.25V. Bypass VSS to GND with a 0.1uF ceramic capacitor as close to the (See Datasheet)", 9 SPI/~{UD} (in) "Interface-Mode Select. Select serial SPI interface when SPI/U\D\ = 1. Select serial up/down interface when SPI/U\D\ = 0.", 10 DIN(U/~{D}) (in), 11 SCLK(~{INC}) (in), 12 ~{CS} (in) "Active-Low Digital Input Chip Select", 13 GND (power) "Ground", 14 VDD (power) "Positive Power-Supply Input (+2.7V =< VDD =< +5.25V). Bypass VDD to GND with a 0.1uF ceramic capacitor as close to the device as possible.", 16 VSS (power) "Negative Power-Supply Input. For single-supply operation, connect VSS to GND. For dualsupply operation, -2.5V =< VSS =< -0.2V as long as (VDD - VSS) =< +5.25V. Bypass VSS to GND with a 0.1uF ceramic capacitor as close to the (See Datasheet)", 17 EP "Exposed Pad (TQFN Only). Externally connect EP to VSS or leave unconnected."
part B pins: 4 NC "No Connection. Not internally connected.", 5 NC "No Connection. Not internally connected.", 6 NC "No Connection. Not internally connected.", 7 NC "No Connection. Not internally connected.", 15 NC "No Connection. Not internally connected."

## MAX5482ETE-T
designator U?
50k Digital Potentiometer (Voltage Divider) with 3-Wire Serial SPI Control Interface, Non-Volatile, Linear Taper, 1024 Steps, -40 to 85 degC, 16-pin TQFN (T1633F-3), Tape and Reel; PartNumber: MAX5482ETE-T; DatasheetVersion: Rev. 5; PackageVersion: Rev. L, 04/2012; PackageReference: T1633F-3; PackageDescription: 16-Pin Thin Quad Flatpack, No Leads, Body 3 x 3 mm, Pitch 0.5 mm; Supplier 1: Mouser; Supplier Part Number 1: N/A; Applications: Fiber Communications, Power Supply Cal.; Control Interface: 3-Wire Serial SPI; Features: EEPROM Wiper Memory; Mounting Technology: Surface Mount; Code_JEDEC: MO220; ComponentLink1Description: Manufacturer URL; ComponentLink1URL: http://www.maximintegrated.com/; ComponentLink2Description: Datasheet; ComponentLink2URL: http://datasheets.maximintegrated.com/en/ds/MAX5481-MAX5484.pdf; ComponentLink3Description: Package Specification; ComponentLink3URL: http://pdfserv.maximintegrated.com/package_dwgs/21-0136.PDF
footprint MAXM-T1633F-3_N (QFN, 16-Leads, Body 3x3mm, Pitch 0.5mm, Thermal Pad 0.8x0.8mm, IPC Medium Density)
footprint MAXM-T1633F-3_L (QFN, 16-Leads, Body 3x3mm, Pitch 0.5mm, Thermal Pad 0.8x0.8mm, IPC High Density)
footprint MAXM-T1633F-3_M (QFN, 16-Leads, Body 3x3mm, Pitch 0.5mm, Thermal Pad 0.8x0.8mm, IPC Low Density)
part A pins: 1 H "High Terminal", 2 W "Wiper Terminal", 3 L "Low Terminal", 8 VSS (power) "Negative Power-Supply Input. For single-supply operation, connect VSS to GND. For dualsupply operation, -2.5V =< VSS =< -0.2V as long as (VDD - VSS) =< +5.25V. Bypass VSS to GND with a 0.1uF ceramic capacitor as close to the (See Datasheet)", 9 SPI/~{UD} (in) "Interface-Mode Select. Select serial SPI interface when SPI/U\D\ = 1. Select serial up/down interface when SPI/U\D\ = 0.", 10 DIN(U/~{D}) (in), 11 SCLK(~{INC}) (in), 12 ~{CS} (in) "Active-Low Digital Input Chip Select", 13 GND (power) "Ground", 14 VDD (power) "Positive Power-Supply Input (+2.7V =< VDD =< +5.25V). Bypass VDD to GND with a 0.1uF ceramic capacitor as close to the device as possible.", 16 VSS (power) "Negative Power-Supply Input. For single-supply operation, connect VSS to GND. For dualsupply operation, -2.5V =< VSS =< -0.2V as long as (VDD - VSS) =< +5.25V. Bypass VSS to GND with a 0.1uF ceramic capacitor as close to the (See Datasheet)", 17 EP (power) "Exposed Pad (TQFN Only). Externally connect EP to VSS or leave unconnected."
part B pins: 4 NC "No Connection. Not internally connected.", 5 NC "No Connection. Not internally connected.", 6 NC "No Connection. Not internally connected.", 7 NC "No Connection. Not internally connected.", 15 NC "No Connection. Not internally connected."

## MAX5482EUD
designator U?
50k Digital Potentiometer (Voltage Divider) with 3-Wire Serial SPI Control Interface, Non-Volatile, Linear Taper, 1024 Steps, -40 to 85 degC, 14-pin TSSOP (U14-1); PartNumber: MAX5482EUD; DatasheetVersion: Rev. 5; PackageVersion: Rev. L, 07/2010; PackageReference: U14-1; PackageDescription: 14-Pin Thin Shrink Small-Outline Package (U14-1), Body 5 x 4.4 mm, Pitch 0.65 mm; Supplier 1: Mouser; Supplier Part Number 1: N/A; Applications: Fiber Communications, Power Supply Cal.; Control Interface: 3-Wire Serial SPI; Features: EEPROM Wiper Memory; Mounting Technology: Surface Mount; Code_JEDEC: MO-153; ComponentLink1Description: Manufacturer URL; ComponentLink1URL: http://www.maximintegrated.com/; ComponentLink2Description: Datasheet; ComponentLink2URL: http://datasheets.maximintegrated.com/en/ds/MAX5481-MAX5484.pdf; ComponentLink3Description: Package Specification; ComponentLink3URL: http://pdfserv.maximintegrated.com/package_dwgs/21-0066.PDF
footprint MAXM-U14-1_N (SOP, 14-Leads, Body 5x4.4mm, Pitch 0.65mm, IPC Medium Density)
footprint MAXM-U14-1_L (SOP, 14-Leads, Body 5x4.4mm, Pitch 0.65mm, IPC High Density)
footprint MAXM-U14-1_M (SOP, 14-Leads, Body 5x4.4mm, Pitch 0.65mm, IPC Low Density)
part A pins: 1 VDD (power) "Positive Power-Supply Input (+2.7V =< VDD =< +5.25V). Bypass VDD to GND with a 0.1uF ceramic capacitor as close to the device as possible.", 2 GND (power) "Ground", 3 ~{CS} (in) "Active-Low Digital Input Chip Select", 4 SCLK(~{INC}) (in), 5 DIN(U/~{D}) (in), 6 SPI/~{UD} (in) "Interface-Mode Select. Select serial SPI interface when SPI/U\D\ = 1. Select serial up/down interface when SPI/U\D\ = 0.", 10 L "Low Terminal", 11 W "Wiper Terminal", 12 H "High Terminal", 14 VSS (power) "Negative Power-Supply Input. For single-supply operation, connect VSS to GND. For dualsupply operation, -2.5V =< VSS =< -0.2V as long as (VDD - VSS) =< 5.25V. Bypass VSS to GND with a 0.1uF ceramic capacitor as close to the (See Datasheet)"
part B pins: 7 NC "No Connection. Not internally connected", 8 NC "No Connection. Not internally connected", 9 NC "No Connection. Not internally connected", 13 NC "No Connection. Not internally connected"

## MAX5482EUD+
designator U?
50k Digital Potentiometer (Voltage Divider) with 3-Wire Serial SPI Control Interface, Non-Volatile, Linear Taper, 1024 Steps, -40 to 85 degC, 14-pin TSSOP (U14+1), Pb-Free; PartNumber: MAX5482EUD+; DatasheetVersion: Rev. 5; PackageVersion: Rev. L, 07/2010; PackageReference: U14+1; PackageDescription: 14-Pin Thin Shrink Small-Outline Package (U14+1), Body 5 x 4.4 mm, Pitch 0.65 mm; Supplier 1: Digi-Key; Supplier Part Number 1: MAX5482EUD+-ND; Supplier 2: Mouser; Supplier Part Number 2: 700-MAX5482EUD; Applications: Fiber Communications, Power Supply Cal.; Control Interface: 3-Wire Serial SPI; Features: EEPROM Wiper Memory; Mounting Technology: Surface Mount; Code_JEDEC: MO-153; ComponentLink1Description: Manufacturer URL; ComponentLink1URL: http://www.maximintegrated.com/; ComponentLink2Description: Datasheet; ComponentLink2URL: http://datasheets.maximintegrated.com/en/ds/MAX5481-MAX5484.pdf; ComponentLink3Description: Package Specification; ComponentLink3URL: http://pdfserv.maximintegrated.com/package_dwgs/21-0066.PDF
footprint MAXM-U14+1_N (SOP, 14-Leads, Body 5x4.4mm, Pitch 0.65mm, IPC Medium Density)
footprint MAXM-U14+1_L (SOP, 14-Leads, Body 5x4.4mm, Pitch 0.65mm, IPC High Density)
footprint MAXM-U14+1_M (SOP, 14-Leads, Body 5x4.4mm, Pitch 0.65mm, IPC Low Density)
part A pins: 1 VDD (power) "Positive Power-Supply Input (+2.7V =< VDD =< +5.25V). Bypass VDD to GND with a 0.1uF ceramic capacitor as close to the device as possible.", 2 GND (power) "Ground", 3 ~{CS} (in) "Active-Low Digital Input Chip Select", 4 SCLK(~{INC}) (in), 5 DIN(U/~{D}) (in), 6 SPI/~{UD} (in) "Interface-Mode Select. Select serial SPI interface when SPI/U\D\ = 1. Select serial up/down interface when SPI/U\D\ = 0.", 10 L "Low Terminal", 11 W "Wiper Terminal", 12 H "High Terminal", 14 VSS (power) "Negative Power-Supply Input. For single-supply operation, connect VSS to GND. For dualsupply operation, -2.5V =< VSS =< -0.2V as long as (VDD - VSS) =< 5.25V. Bypass VSS to GND with a 0.1uF ceramic capacitor as close to the (See Datasheet)"
part B pins: 7 NC "No Connection. Not internally connected", 8 NC "No Connection. Not internally connected", 9 NC "No Connection. Not internally connected", 13 NC "No Connection. Not internally connected"

## MAX5482EUD+T
designator U?
50k Digital Potentiometer (Voltage Divider) with 3-Wire Serial SPI Control Interface, Non-Volatile, Linear Taper, 1024 Steps, -40 to 85 degC, 14-pin TSSOP (U14+1), Pb-Free, Tape and Reel; PartNumber: MAX5482EUD+T; DatasheetVersion: Rev. 5; PackageVersion: Rev. L, 07/2010; PackageReference: U14+1; PackageDescription: 14-Pin Thin Shrink Small-Outline Package (U14+1), Body 5 x 4.4 mm, Pitch 0.65 mm; Supplier 1: Digi-Key; Supplier Part Number 1: MAX5482EUD+T-ND; Supplier 2: Mouser; Supplier Part Number 2: 700-MAX5482EUDT; Applications: Fiber Communications, Power Supply Cal.; Control Interface: 3-Wire Serial SPI; Features: EEPROM Wiper Memory; Mounting Technology: Surface Mount; Code_JEDEC: MO-153; ComponentLink1Description: Manufacturer URL; ComponentLink1URL: http://www.maximintegrated.com/; ComponentLink2Description: Datasheet; ComponentLink2URL: http://datasheets.maximintegrated.com/en/ds/MAX5481-MAX5484.pdf; ComponentLink3Description: Package Specification; ComponentLink3URL: http://pdfserv.maximintegrated.com/package_dwgs/21-0066.PDF
footprint MAXM-U14+1_N (SOP, 14-Leads, Body 5x4.4mm, Pitch 0.65mm, IPC Medium Density)
footprint MAXM-U14+1_L (SOP, 14-Leads, Body 5x4.4mm, Pitch 0.65mm, IPC High Density)
footprint MAXM-U14+1_M (SOP, 14-Leads, Body 5x4.4mm, Pitch 0.65mm, IPC Low Density)
part A pins: 1 VDD (power) "Positive Power-Supply Input (+2.7V =< VDD =< +5.25V). Bypass VDD to GND with a 0.1uF ceramic capacitor as close to the device as possible.", 2 GND (power) "Ground", 3 ~{CS} (in) "Active-Low Digital Input Chip Select", 4 SCLK(~{INC}) (in), 5 DIN(U/~{D}) (in), 6 SPI/~{UD} (in) "Interface-Mode Select. Select serial SPI interface when SPI/U\D\ = 1. Select serial up/down interface when SPI/U\D\ = 0.", 10 L "Low Terminal", 11 W "Wiper Terminal", 12 H "High Terminal", 14 VSS (power) "Negative Power-Supply Input. For single-supply operation, connect VSS to GND. For dualsupply operation, -2.5V =< VSS =< -0.2V as long as (VDD - VSS) =< 5.25V. Bypass VSS to GND with a 0.1uF ceramic capacitor as close to the (See Datasheet)"
part B pins: 7 NC "No Connection. Not internally connected", 8 NC "No Connection. Not internally connected", 9 NC "No Connection. Not internally connected", 13 NC "No Connection. Not internally connected"

## MAX5482EUD-T
designator U?
50k Digital Potentiometer (Voltage Divider) with 3-Wire Serial SPI Control Interface, Non-Volatile, Linear Taper, 1024 Steps, -40 to 85 degC, 14-pin TSSOP (U14-1), Tape and Reel; PartNumber: MAX5482EUD-T; DatasheetVersion: Rev. 5; PackageVersion: Rev. L, 07/2010; PackageReference: U14-1; PackageDescription: 14-Pin Thin Shrink Small-Outline Package (U14-1), Body 5 x 4.4 mm, Pitch 0.65 mm; Supplier 1: Mouser; Supplier Part Number 1: N/A; Applications: Fiber Communications, Power Supply Cal.; Control Interface: 3-Wire Serial SPI; Features: EEPROM Wiper Memory; Mounting Technology: Surface Mount; Code_JEDEC: MO-153; ComponentLink1Description: Manufacturer URL; ComponentLink1URL: http://www.maximintegrated.com/; ComponentLink2Description: Datasheet; ComponentLink2URL: http://datasheets.maximintegrated.com/en/ds/MAX5481-MAX5484.pdf; ComponentLink3Description: Package Specification; ComponentLink3URL: http://pdfserv.maximintegrated.com/package_dwgs/21-0066.PDF
footprint MAXM-U14-1_N (SOP, 14-Leads, Body 5x4.4mm, Pitch 0.65mm, IPC Medium Density)
footprint MAXM-U14-1_L (SOP, 14-Leads, Body 5x4.4mm, Pitch 0.65mm, IPC High Density)
footprint MAXM-U14-1_M (SOP, 14-Leads, Body 5x4.4mm, Pitch 0.65mm, IPC Low Density)
part A pins: 1 VDD (power) "Positive Power-Supply Input (+2.7V =< VDD =< +5.25V). Bypass VDD to GND with a 0.1uF ceramic capacitor as close to the device as possible.", 2 GND (power) "Ground", 3 ~{CS} (in) "Active-Low Digital Input Chip Select", 4 SCLK(~{INC}) (in), 5 DIN(U/~{D}) (in), 6 SPI/~{UD} (in) "Interface-Mode Select. Select serial SPI interface when SPI/U\D\ = 1. Select serial up/down interface when SPI/U\D\ = 0.", 10 L "Low Terminal", 11 W "Wiper Terminal", 12 H "High Terminal", 14 VSS (power) "Negative Power-Supply Input. For single-supply operation, connect VSS to GND. For dualsupply operation, -2.5V =< VSS =< -0.2V as long as (VDD - VSS) =< 5.25V. Bypass VSS to GND with a 0.1uF ceramic capacitor as close to the (See Datasheet)"
part B pins: 7 NC "No Connection. Not internally connected", 8 NC "No Connection. Not internally connected", 9 NC "No Connection. Not internally connected", 13 NC "No Connection. Not internally connected"